# Altium schematic symbol library ADuM1100xR.SchLib: 1 symbol
Pins are listed as number, name and electrical type; pins without a type are passive.

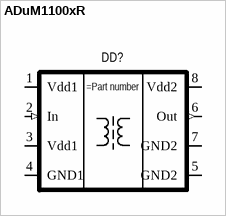
[diagram p0: symbol ADuM1100xR]

## ADuM1100xR
designator DD?
High-Speed Digital Isolator
pins: 1 Vdd1 (power), 2 In (in), 3 Vdd1 (power), 4 GND1 (power), 5 GND2 (power), 6 Out (out), 7 GND2 (power), 8 Vdd2 (power)